# Altium integrated library ON Semi Signal Management Modems & Transceivers.IntLib: 97 symbols (part 4 of 5)
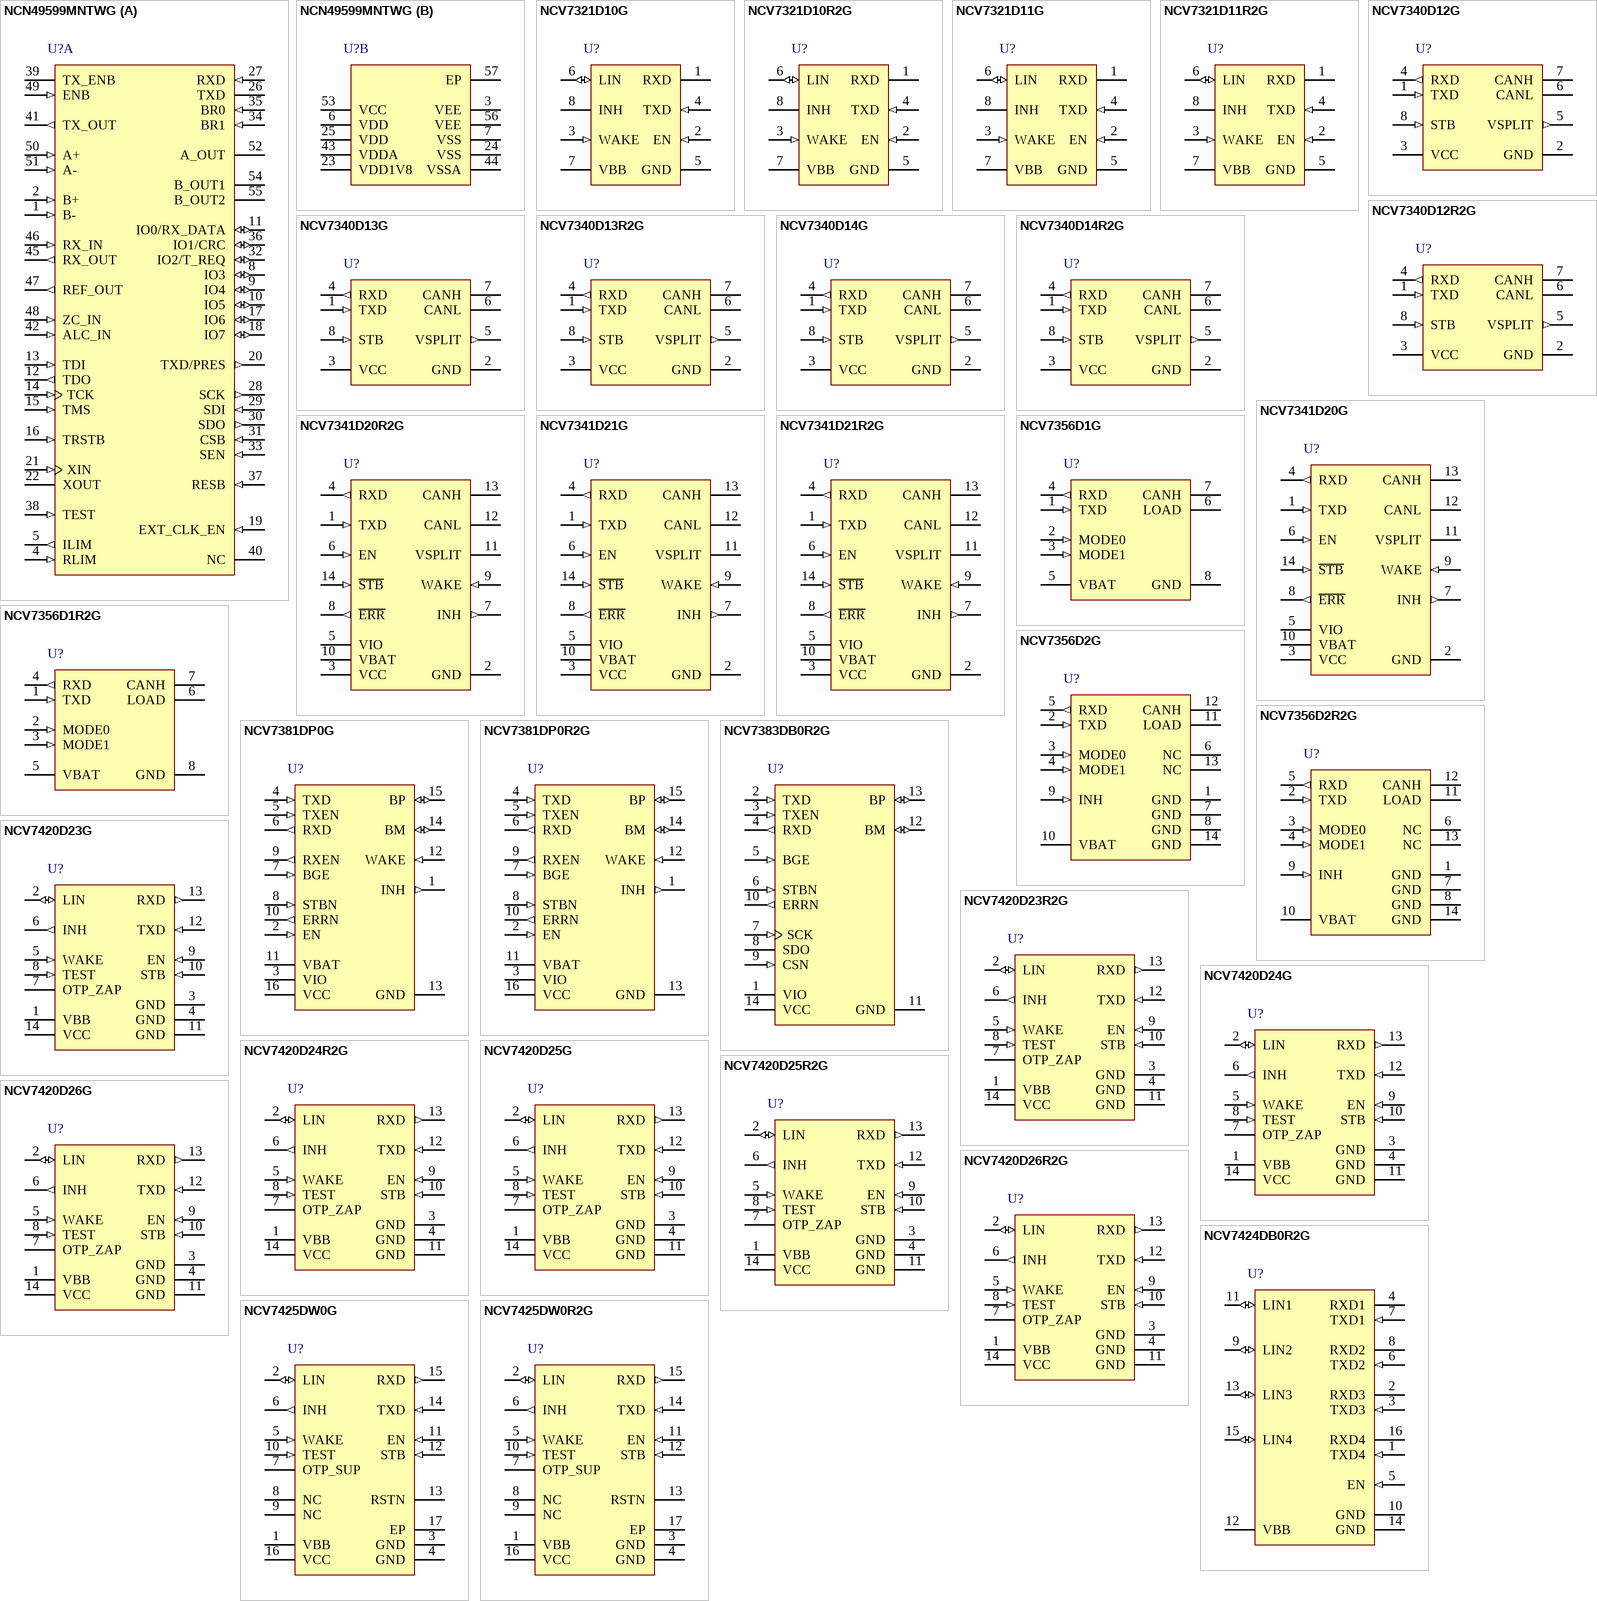
[diagram p7: symbols NCN49599MNTWG to NCV7425DW0R2G]

## NCV7321D10R2G
designator U?
Stand-Alone LIN Transceiver, -40 to 125 degC, 8-Pin SOIC, Pb-Free, Tape and Reel; Manufacturer: On Semiconductor; PartNumber: NCV7321D10R2G; Data Rate: 20 kbaud; Number of Drivers: 1; DatasheetVersion: Rev. 11; PackageVersion: Rev. AK, 02/2011; PackageReference: SOIC-8-751-07; PackageDescription: 8-Pin Small Outline Integrated Circuit, Body 4.9 x 3.9 mm, Pitch 1.27 mm; Supplier 1: Digi-Key; Supplier Part Number 1: NCV7321D10R2G-ND; Supplier 2: Mouser; Supplier Part Number 2: 863-NCV7321D10R2G; Data Transmission Standard: LIN; Number of Receivers: 1; Packing: Tape and Reel; RoHS: TRUE; Mounting Technology: Surface Mount; ComponentLink1Description: Manufacturer URL; ComponentLink1URL: http://www.onsemi.com/; ComponentLink2Description: Datasheet; ComponentLink2URL: http://www.onsemi.com/pub_link/Collateral/NCV7321-D.PDF; ComponentLink3Description: Package Specification; ComponentLink3URL: http://www.onsemi.com/pub_link/Collateral/751-07.PDF
footprint ONSC-SOIC-8-751-07_V (SOIC, 8-Leads, Body 4.9x3.9mm, Pitch 1.27mm)
pins: 1 RXD (oc) "Receive Data Output; Low in Dominant State; Open-Drain Output", 2 EN (in) "Enable Input, Transceiver in Normal Operation Mode when High, Pull-down Resistor to GND", 3 WAKE (in) "High Voltage Digital Input Pin to Apply Local Wake-up, Sensitive to Falling Edge, Pull-up Current Source to VBB", 4 TXD (in) "Transmit Data Input, Low for Dominant State, Pull-down to GND (Switchable Strength for Wake-up Source Recognition)", 5 GND (power) "Ground", 6 LIN (io) "LIN Bus Output/Input", 7 VBB (power) "Battery Supply Input", 8 INH (oc) "Inhibit Output, Switch Between INH and VBB can be Used to Control External Regulator or Pull-up Resistor on LIN Bus"

## NCV7321D11G
designator U?
Stand-Alone LIN Transceiver, -40 to 125 degC, 8-Pin SOIC, Pb-Free, Tube; Manufacturer: On Semiconductor; PartNumber: NCV7321D11G; Data Rate: 20 kbaud; Number of Drivers: 1; DatasheetVersion: Rev. 11; PackageVersion: Rev. AK, 02/2011; PackageReference: SOIC-8-751-07; PackageDescription: 8-Pin Small Outline Integrated Circuit, Body 4.9 x 3.9 mm, Pitch 1.27 mm; Supplier 1: Digi-Key; Supplier Part Number 1: NCV7321D11G-ND; Supplier 2: Mouser; Supplier Part Number 2: 863-NCV7321D11G; Data Transmission Standard: LIN; Number of Receivers: 1; Packing: Tube; RoHS: TRUE; Mounting Technology: Surface Mount; ComponentLink1Description: Manufacturer URL; ComponentLink1URL: http://www.onsemi.com/; ComponentLink2Description: Datasheet; ComponentLink2URL: http://www.onsemi.com/pub_link/Collateral/NCV7321-D.PDF; ComponentLink3Description: Package Specification; ComponentLink3URL: http://www.onsemi.com/pub_link/Collateral/751-07.PDF
footprint ONSC-SOIC-8-751-07_V (SOIC, 8-Leads, Body 4.9x3.9mm, Pitch 1.27mm)
pins: 1 RXD (oc) "Receive Data Output; Low in Dominant State; Open-Drain Output", 2 EN (in) "Enable Input, Transceiver in Normal Operation Mode when High, Pull-down Resistor to GND", 3 WAKE (in) "High Voltage Digital Input Pin to Apply Local Wake-up, Sensitive to Falling Edge, Pull-up Current Source to VBB", 4 TXD (in) "Transmit Data Input, Low for Dominant State, Pull-down to GND (Switchable Strength for Wake-up Source Recognition)", 5 GND (power) "Ground", 6 LIN (io) "LIN Bus Output/Input", 7 VBB (power) "Battery Supply Input", 8 INH (oc) "Inhibit Output, Switch Between INH and VBB can be Used to Control External Regulator or Pull-up Resistor on LIN Bus"

## NCV7321D11R2G
designator U?
Stand-Alone LIN Transceiver, -40 to 125 degC, 8-Pin SOIC, Pb-Free, Tape and Reel; Manufacturer: On Semiconductor; PartNumber: NCV7321D11R2G; Data Rate: 20 kbaud; Number of Drivers: 1; DatasheetVersion: Rev. 11; PackageVersion: Rev. AK, 02/2011; PackageReference: SOIC-8-751-07; PackageDescription: 8-Pin Small Outline Integrated Circuit, Body 4.9 x 3.9 mm, Pitch 1.27 mm; Supplier 1: Digi-Key; Supplier Part Number 1: NCV7321D11R2GOSTR-ND; Supplier 2: Digi-Key; Supplier Part Number 2: NCV7321D11R2GOSCT-ND; Supplier 3: Digi-Key; Supplier Part Number 3: NCV7321D11R2GOSDKR-ND; Supplier 4: Mouser; Supplier Part Number 4: 863-NCV7321D11R2G; Data Transmission Standard: LIN; Number of Receivers: 1; Packing: Tape and Reel; RoHS: TRUE; Mounting Technology: Surface Mount; ComponentLink1Description: Manufacturer URL; ComponentLink1URL: http://www.onsemi.com/; ComponentLink2Description: Datasheet; ComponentLink2URL: http://www.onsemi.com/pub_link/Collateral/NCV7321-D.PDF; ComponentLink3Description: Package Specification; ComponentLink3URL: http://www.onsemi.com/pub_link/Collateral/751-07.PDF
footprint ONSC-SOIC-8-751-07_V (SOIC, 8-Leads, Body 4.9x3.9mm, Pitch 1.27mm)
pins: 1 RXD (oc) "Receive Data Output; Low in Dominant State; Open-Drain Output", 2 EN (in) "Enable Input, Transceiver in Normal Operation Mode when High, Pull-down Resistor to GND", 3 WAKE (in) "High Voltage Digital Input Pin to Apply Local Wake-up, Sensitive to Falling Edge, Pull-up Current Source to VBB", 4 TXD (in) "Transmit Data Input, Low for Dominant State, Pull-down to GND (Switchable Strength for Wake-up Source Recognition)", 5 GND (power) "Ground", 6 LIN (io) "LIN Bus Output/Input", 7 VBB (power) "Battery Supply Input", 8 INH (oc) "Inhibit Output, Switch Between INH and VBB can be Used to Control External Regulator or Pull-up Resistor on LIN Bus"

## NCV7340D12G
designator U?
High Speed Low Power CAN Transceiver, 4.75 to 5.25 V, -40 to 125 degC, 8-Pin SOIC, Pb-Free, Tube; Manufacturer: On Semiconductor; PartNumber: NCV7340D12G; Data Rate: 1 Mb/s; Number of Drivers: 1; VCC Max (V): 5.25; VCC Min (V): 4.75; DatasheetVersion: Rev. 7; PackageVersion: Rev. O, 09/2008; PackageReference: SOIC-8-751AZ-01; PackageDescription: 8-Pin Small Outline Integrated Circuit, Body 4.9 x 3.9 mm, Pitch 1.27 mm; Supplier 1: Digi-Key; Supplier Part Number 1: NCV7340D12G-ND; Supplier 2: Mouser; Supplier Part Number 2: 863-NCV7340D12G; Data Transmission Standard: CAN; Number of Receivers: 1; Packing: Tube; RoHS: TRUE; Mounting Technology: Surface Mount; ComponentLink1Description: Manufacturer URL; ComponentLink1URL: http://www.onsemi.com/; ComponentLink2Description: Datasheet; ComponentLink2URL: http://www.onsemi.com/pub_link/Collateral/NCV7340-D.PDF; ComponentLink3Description: Package Specification; ComponentLink3URL: http://www.onsemi.com/pub_link/Collateral/751AZ.PDF
footprint ONSC-SOIC-8-751AZ-01_N (SOIC, 8-Leads, Body 5x4mm, Pitch 1.27mm, IPC Medium Density)
footprint ONSC-SOIC-8-751AZ-01_L (SOIC, 8-Leads, Body 5x4mm, Pitch 1.27mm, IPC High Density)
footprint ONSC-SOIC-8-751AZ-01_M (SOIC, 8-Leads, Body 5x4mm, Pitch 1.27mm, IPC Low Density)
pins: 1 TXD (in) "Transmit Data Input; Low Input --> Dominant Driver; Internal Pullup Current", 2 GND (power) "Ground", 3 VCC (power) "Supply Voltage", 4 RXD (out) "Receive Data Output; Dominant transmitter --> Low Output", 5 VSPLIT (out) "Common-Mode Stabilization Output", 6 CANL "Low-Level CAN Bus Line (Low in Dominant Mode)", 7 CANH "High-Level CAN Bus Line (High in Dominant Mode)", 8 STB (in) "Standby Mode Control Input"

## NCV7340D12R2G
designator U?
High Speed Low Power CAN Transceiver, 4.75 to 5.25 V, -40 to 125 degC, 8-Pin SOIC, Pb-Free, Tape and Reel; Manufacturer: On Semiconductor; PartNumber: NCV7340D12R2G; Data Rate: 1 Mb/s; Number of Drivers: 1; VCC Max (V): 5.25; VCC Min (V): 4.75; DatasheetVersion: Rev. 7; PackageVersion: Rev. O, 09/2008; PackageReference: SOIC-8-751AZ-01; PackageDescription: 8-Pin Small Outline Integrated Circuit, Body 4.9 x 3.9 mm, Pitch 1.27 mm; Supplier 1: Digi-Key; Supplier Part Number 1: NCV7340D12R2G-ND; Supplier 2: Mouser; Supplier Part Number 2: 863-NCV7340D12R2G; Data Transmission Standard: CAN; Number of Receivers: 1; Packing: Tape and Reel; RoHS: TRUE; Mounting Technology: Surface Mount; ComponentLink1Description: Manufacturer URL; ComponentLink1URL: http://www.onsemi.com/; ComponentLink2Description: Datasheet; ComponentLink2URL: http://www.onsemi.com/pub_link/Collateral/NCV7340-D.PDF; ComponentLink3Description: Package Specification; ComponentLink3URL: http://www.onsemi.com/pub_link/Collateral/751AZ.PDF
footprint ONSC-SOIC-8-751AZ-01_N (SOIC, 8-Leads, Body 5x4mm, Pitch 1.27mm, IPC Medium Density)
footprint ONSC-SOIC-8-751AZ-01_L (SOIC, 8-Leads, Body 5x4mm, Pitch 1.27mm, IPC High Density)
footprint ONSC-SOIC-8-751AZ-01_M (SOIC, 8-Leads, Body 5x4mm, Pitch 1.27mm, IPC Low Density)
pins: 1 TXD (in) "Transmit Data Input; Low Input --> Dominant Driver; Internal Pullup Current", 2 GND (power) "Ground", 3 VCC (power) "Supply Voltage", 4 RXD (out) "Receive Data Output; Dominant transmitter --> Low Output", 5 VSPLIT (out) "Common-Mode Stabilization Output", 6 CANL "Low-Level CAN Bus Line (Low in Dominant Mode)", 7 CANH "High-Level CAN Bus Line (High in Dominant Mode)", 8 STB (in) "Standby Mode Control Input"

## NCV7340D13G
designator U?
High Speed Low Power CAN Transceiver, 4.75 to 5.25 V, -40 to 125 degC, 8-Pin SOIC, Pb-Free, Tube; Manufacturer: On Semiconductor; PartNumber: NCV7340D13G; Data Rate: 1 Mb/s; Number of Drivers: 1; VCC Max (V): 5.25; VCC Min (V): 4.75; DatasheetVersion: Rev. 7; PackageVersion: Rev. O, 09/2008; PackageReference: SOIC-8-751AZ-01; PackageDescription: 8-Pin Small Outline Integrated Circuit, Body 4.9 x 3.9 mm, Pitch 1.27 mm; Supplier 1: Digi-Key; Supplier Part Number 1: NCV7340D13G-ND; Supplier 2: Mouser; Supplier Part Number 2: 863-NCV7340D13G; Data Transmission Standard: CAN; Number of Receivers: 1; Packing: Tube; RoHS: TRUE; Mounting Technology: Surface Mount; ComponentLink1Description: Manufacturer URL; ComponentLink1URL: http://www.onsemi.com/; ComponentLink2Description: Datasheet; ComponentLink2URL: http://www.onsemi.com/pub_link/Collateral/NCV7340-D.PDF; ComponentLink3Description: Package Specification; ComponentLink3URL: http://www.onsemi.com/pub_link/Collateral/751AZ.PDF
footprint ONSC-SOIC-8-751AZ-01_N (SOIC, 8-Leads, Body 5x4mm, Pitch 1.27mm, IPC Medium Density)
footprint ONSC-SOIC-8-751AZ-01_L (SOIC, 8-Leads, Body 5x4mm, Pitch 1.27mm, IPC High Density)
footprint ONSC-SOIC-8-751AZ-01_M (SOIC, 8-Leads, Body 5x4mm, Pitch 1.27mm, IPC Low Density)
pins: 1 TXD (in) "Transmit Data Input; Low Input --> Dominant Driver; Internal Pullup Current", 2 GND (power) "Ground", 3 VCC (power) "Supply Voltage", 4 RXD (out) "Receive Data Output; Dominant transmitter --> Low Output", 5 VSPLIT (out) "Common-Mode Stabilization Output", 6 CANL "Low-Level CAN Bus Line (Low in Dominant Mode)", 7 CANH "High-Level CAN Bus Line (High in Dominant Mode)", 8 STB (in) "Standby Mode Control Input"

## NCV7340D13R2G
designator U?
High Speed Low Power CAN Transceiver, 4.75 to 5.25 V, -40 to 125 degC, 8-Pin SOIC, Pb-Free, Tape and Reel; Manufacturer: On Semiconductor; PartNumber: NCV7340D13R2G; Data Rate: 1 Mb/s; Number of Drivers: 1; VCC Max (V): 5.25; VCC Min (V): 4.75; DatasheetVersion: Rev. 7; PackageVersion: Rev. O, 09/2008; PackageReference: SOIC-8-751AZ-01; PackageDescription: 8-Pin Small Outline Integrated Circuit, Body 4.9 x 3.9 mm, Pitch 1.27 mm; Supplier 1: Digi-Key; Supplier Part Number 1: NCV7340D13R2G-ND; Supplier 2: Mouser; Supplier Part Number 2: 863-NCV7340D13R2G; Data Transmission Standard: CAN; Number of Receivers: 1; Packing: Tape and Reel; RoHS: TRUE; Mounting Technology: Surface Mount; ComponentLink1Description: Manufacturer URL; ComponentLink1URL: http://www.onsemi.com/; ComponentLink2Description: Datasheet; ComponentLink2URL: http://www.onsemi.com/pub_link/Collateral/NCV7340-D.PDF; ComponentLink3Description: Package Specification; ComponentLink3URL: http://www.onsemi.com/pub_link/Collateral/751AZ.PDF
footprint ONSC-SOIC-8-751AZ-01_N (SOIC, 8-Leads, Body 5x4mm, Pitch 1.27mm, IPC Medium Density)
footprint ONSC-SOIC-8-751AZ-01_L (SOIC, 8-Leads, Body 5x4mm, Pitch 1.27mm, IPC High Density)
footprint ONSC-SOIC-8-751AZ-01_M (SOIC, 8-Leads, Body 5x4mm, Pitch 1.27mm, IPC Low Density)
pins: 1 TXD (in) "Transmit Data Input; Low Input --> Dominant Driver; Internal Pullup Current", 2 GND (power) "Ground", 3 VCC (power) "Supply Voltage", 4 RXD (out) "Receive Data Output; Dominant transmitter --> Low Output", 5 VSPLIT (out) "Common-Mode Stabilization Output", 6 CANL "Low-Level CAN Bus Line (Low in Dominant Mode)", 7 CANH "High-Level CAN Bus Line (High in Dominant Mode)", 8 STB (in) "Standby Mode Control Input"

## NCV7340D14G
designator U?
High Speed Low Power CAN Transceiver, 4.75 to 5.25 V, -40 to 125 degC, 8-Pin SOIC, Pb-Free, Tube; Manufacturer: On Semiconductor; PartNumber: NCV7340D14G; Data Rate: 1 Mb/s; Number of Drivers: 1; VCC Max (V): 5.25; VCC Min (V): 4.75; DatasheetVersion: Rev. 7; PackageVersion: Rev. O, 09/2008; PackageReference: SOIC-8-751AZ-01; PackageDescription: 8-Pin Small Outline Integrated Circuit, Body 4.9 x 3.9 mm, Pitch 1.27 mm; Supplier 1: Mouser; Supplier Part Number 1: 863-NCV7340D14G; Data Transmission Standard: CAN; Number of Receivers: 1; Packing: Tube; RoHS: TRUE; Mounting Technology: Surface Mount; ComponentLink1Description: Manufacturer URL; ComponentLink1URL: http://www.onsemi.com/; ComponentLink2Description: Datasheet; ComponentLink2URL: http://www.onsemi.com/pub_link/Collateral/NCV7340-D.PDF; ComponentLink3Description: Package Specification; ComponentLink3URL: http://www.onsemi.com/pub_link/Collateral/751AZ.PDF
footprint ONSC-SOIC-8-751AZ-01_N (SOIC, 8-Leads, Body 5x4mm, Pitch 1.27mm, IPC Medium Density)
footprint ONSC-SOIC-8-751AZ-01_L (SOIC, 8-Leads, Body 5x4mm, Pitch 1.27mm, IPC High Density)
footprint ONSC-SOIC-8-751AZ-01_M (SOIC, 8-Leads, Body 5x4mm, Pitch 1.27mm, IPC Low Density)
pins: 1 TXD (in) "Transmit Data Input; Low Input --> Dominant Driver; Internal Pullup Current", 2 GND (power) "Ground", 3 VCC (power) "Supply Voltage", 4 RXD (out) "Receive Data Output; Dominant transmitter --> Low Output", 5 VSPLIT (out) "Common-Mode Stabilization Output", 6 CANL "Low-Level CAN Bus Line (Low in Dominant Mode)", 7 CANH "High-Level CAN Bus Line (High in Dominant Mode)", 8 STB (in) "Standby Mode Control Input"

## NCV7340D14R2G
designator U?
High Speed Low Power CAN Transceiver, 4.75 to 5.25 V, -40 to 125 degC, 8-Pin SOIC, Pb-Free, Tape and Reel; Manufacturer: On Semiconductor; PartNumber: NCV7340D14R2G; Data Rate: 1 Mb/s; Number of Drivers: 1; VCC Max (V): 5.25; VCC Min (V): 4.75; DatasheetVersion: Rev. 7; PackageVersion: Rev. O, 09/2008; PackageReference: SOIC-8-751AZ-01; PackageDescription: 8-Pin Small Outline Integrated Circuit, Body 4.9 x 3.9 mm, Pitch 1.27 mm; Supplier 1: Mouser; Supplier Part Number 1: 863-NCV7340D14R2G; Data Transmission Standard: CAN; Number of Receivers: 1; Packing: Tape and Reel; RoHS: TRUE; Mounting Technology: Surface Mount; ComponentLink1Description: Manufacturer URL; ComponentLink1URL: http://www.onsemi.com/; ComponentLink2Description: Datasheet; ComponentLink2URL: http://www.onsemi.com/pub_link/Collateral/NCV7340-D.PDF; ComponentLink3Description: Package Specification; ComponentLink3URL: http://www.onsemi.com/pub_link/Collateral/751AZ.PDF
footprint ONSC-SOIC-8-751AZ-01_N (SOIC, 8-Leads, Body 5x4mm, Pitch 1.27mm, IPC Medium Density)
footprint ONSC-SOIC-8-751AZ-01_L (SOIC, 8-Leads, Body 5x4mm, Pitch 1.27mm, IPC High Density)
footprint ONSC-SOIC-8-751AZ-01_M (SOIC, 8-Leads, Body 5x4mm, Pitch 1.27mm, IPC Low Density)
pins: 1 TXD (in) "Transmit Data Input; Low Input --> Dominant Driver; Internal Pullup Current", 2 GND (power) "Ground", 3 VCC (power) "Supply Voltage", 4 RXD (out) "Receive Data Output; Dominant transmitter --> Low Output", 5 VSPLIT (out) "Common-Mode Stabilization Output", 6 CANL "Low-Level CAN Bus Line (Low in Dominant Mode)", 7 CANH "High-Level CAN Bus Line (High in Dominant Mode)", 8 STB (in) "Standby Mode Control Input"

## NCV7341D20G
designator U?
High Speed Low Power CAN Transceiver, 4.75 to 5.25 V, -50 to 125 degC, 14-Pin SOIC, Pb-Free, Tube; Manufacturer: On Semiconductor; PartNumber: NCV7341D20G; Data Rate: 1 Mb/s; Number of Drivers: 1; VCC Max (V): 5.25; VCC Min (V): 4.75; DatasheetVersion: Rev. 4; PackageVersion: Rev. A, 08/2008; PackageReference: SOIC-14-751AP-01; PackageDescription: 14-Pin Small Outline Integrated Circuit, Body 8.65 x 3.9 mm, Pitch 1.27 mm; Supplier 1: Digi-Key; Supplier Part Number 1: NCV7341D20G-ND; Supplier 2: Mouser; Supplier Part Number 2: 863-NCV7341D20G; Data Transmission Standard: CAN; Number of Receivers: 1; Packing: Tube; RoHS: TRUE; Mounting Technology: Surface Mount; ComponentLink1Description: Manufacturer URL; ComponentLink1URL: http://www.onsemi.com/; ComponentLink2Description: Datasheet; ComponentLink2URL: http://www.onsemi.com/pub_link/Collateral/NCV7341-D.PDF; ComponentLink3Description: Package Specification; ComponentLink3URL: http://www.onsemi.com/pub_link/Collateral/751AP.PDF
footprint ONSC-SOIC-14-751AP-01_N (SOIC, 14-Leads, Body 8.7x4mm, Pitch 1.27mm, IPC Medium Density)
footprint ONSC-SOIC-14-751AP-01_L (SOIC, 14-Leads, Body 8.7x4mm, Pitch 1.27mm, IPC High Density)
footprint ONSC-SOIC-14-751AP-01_M (SOIC, 14-Leads, Body 8.7x4mm, Pitch 1.27mm, IPC Low Density)
pins: 1 TXD (in) "Transmit data input; low level = dominant on the bus; internal pull-up current", 2 GND (power) "Ground", 3 VCC (power) "Supply voltage for the core circuitry and the transceiver", 4 RXD (out) "Receive data output; dominant bus => low output", 5 VIO (power) "Supply voltage for the CAN controller interface", 6 EN (in) "Enable input; internal pull-down current", 7 INH (out) "High voltage output for controlling external voltage regulators", 8 ~{ERR} (out) "Digital output indicating errors and power-up; active low", 9 WAKE (in) "Local wake-up input", 10 VBAT (power) "Battery supply connection", 11 VSPLIT (hiz) "Common-mode stabilization output", 12 CANL "Low-level CAN bus line (low in dominant)", 13 CANH "High-level CAN bus line (high in dominant)", 14 ~{STB} (in) "Stand-by mode control input; internal pull-down current"

## NCV7341D20R2G
designator U?
High Speed Low Power CAN Transceiver, 4.75 to 5.25 V, -50 to 125 degC, 14-Pin SOIC, Pb-Free, Tape and Reel; Manufacturer: On Semiconductor; PartNumber: NCV7341D20R2G; Data Rate: 1 Mb/s; Number of Drivers: 1; VCC Max (V): 5.25; VCC Min (V): 4.75; DatasheetVersion: Rev. 4; PackageVersion: Rev. A, 08/2008; PackageReference: SOIC-14-751AP-01; PackageDescription: 14-Pin Small Outline Integrated Circuit, Body 8.65 x 3.9 mm, Pitch 1.27 mm; Supplier 1: Digi-Key; Supplier Part Number 1: NCV7341D20R2G-ND; Supplier 2: Mouser; Supplier Part Number 2: 863-NCV7341D20R2G; Data Transmission Standard: CAN; Number of Receivers: 1; Packing: Tape and Reel; RoHS: TRUE; Mounting Technology: Surface Mount; ComponentLink1Description: Manufacturer URL; ComponentLink1URL: http://www.onsemi.com/; ComponentLink2Description: Datasheet; ComponentLink2URL: http://www.onsemi.com/pub_link/Collateral/NCV7341-D.PDF; ComponentLink3Description: Package Specification; ComponentLink3URL: http://www.onsemi.com/pub_link/Collateral/751AP.PDF
footprint ONSC-SOIC-14-751AP-01_N (SOIC, 14-Leads, Body 8.7x4mm, Pitch 1.27mm, IPC Medium Density)
footprint ONSC-SOIC-14-751AP-01_L (SOIC, 14-Leads, Body 8.7x4mm, Pitch 1.27mm, IPC High Density)
footprint ONSC-SOIC-14-751AP-01_M (SOIC, 14-Leads, Body 8.7x4mm, Pitch 1.27mm, IPC Low Density)
pins: 1 TXD (in) "Transmit data input; low level = dominant on the bus; internal pull-up current", 2 GND (power) "Ground", 3 VCC (power) "Supply voltage for the core circuitry and the transceiver", 4 RXD (out) "Receive data output; dominant bus => low output", 5 VIO (power) "Supply voltage for the CAN controller interface", 6 EN (in) "Enable input; internal pull-down current", 7 INH (out) "High voltage output for controlling external voltage regulators", 8 ~{ERR} (out) "Digital output indicating errors and power-up; active low", 9 WAKE (in) "Local wake-up input", 10 VBAT (power) "Battery supply connection", 11 VSPLIT (hiz) "Common-mode stabilization output", 12 CANL "Low-level CAN bus line (low in dominant)", 13 CANH "High-level CAN bus line (high in dominant)", 14 ~{STB} (in) "Stand-by mode control input; internal pull-down current"

## NCV7341D21G
designator U?
High Speed Low Power CAN Transceiver, 4.75 to 5.25 V, -50 to 125 degC, 14-Pin SOIC, Pb-Free, Tube; Manufacturer: On Semiconductor; PartNumber: NCV7341D21G; Data Rate: 1 Mb/s; Number of Drivers: 1; VCC Max (V): 5.25; VCC Min (V): 4.75; DatasheetVersion: Rev. 4; PackageVersion: Rev. A, 08/2008; PackageReference: SOIC-14-751AP-01; PackageDescription: 14-Pin Small Outline Integrated Circuit, Body 8.65 x 3.9 mm, Pitch 1.27 mm; Supplier 1: Digi-Key; Supplier Part Number 1: NCV7341D21G-ND; Supplier 2: Mouser; Supplier Part Number 2: 863-NCV7341D21G; Data Transmission Standard: CAN; Number of Receivers: 1; Packing: Tube; RoHS: TRUE; Mounting Technology: Surface Mount; ComponentLink1Description: Manufacturer URL; ComponentLink1URL: http://www.onsemi.com/; ComponentLink2Description: Datasheet; ComponentLink2URL: http://www.onsemi.com/pub_link/Collateral/NCV7341-D.PDF; ComponentLink3Description: Package Specification; ComponentLink3URL: http://www.onsemi.com/pub_link/Collateral/751AP.PDF
footprint ONSC-SOIC-14-751AP-01_N (SOIC, 14-Leads, Body 8.7x4mm, Pitch 1.27mm, IPC Medium Density)
footprint ONSC-SOIC-14-751AP-01_L (SOIC, 14-Leads, Body 8.7x4mm, Pitch 1.27mm, IPC High Density)
footprint ONSC-SOIC-14-751AP-01_M (SOIC, 14-Leads, Body 8.7x4mm, Pitch 1.27mm, IPC Low Density)
pins: 1 TXD (in) "Transmit data input; low level = dominant on the bus; internal pull-up current", 2 GND (power) "Ground", 3 VCC (power) "Supply voltage for the core circuitry and the transceiver", 4 RXD (out) "Receive data output; dominant bus => low output", 5 VIO (power) "Supply voltage for the CAN controller interface", 6 EN (in) "Enable input; internal pull-down current", 7 INH (out) "High voltage output for controlling external voltage regulators", 8 ~{ERR} (out) "Digital output indicating errors and power-up; active low", 9 WAKE (in) "Local wake-up input", 10 VBAT (power) "Battery supply connection", 11 VSPLIT (hiz) "Common-mode stabilization output", 12 CANL "Low-level CAN bus line (low in dominant)", 13 CANH "High-level CAN bus line (high in dominant)", 14 ~{STB} (in) "Stand-by mode control input; internal pull-down current"

## NCV7341D21R2G
designator U?
High Speed Low Power CAN Transceiver, 4.75 to 5.25 V, -50 to 125 degC, 14-Pin SOIC, Pb-Free, Tape and Reel; Manufacturer: On Semiconductor; PartNumber: NCV7341D21R2G; Data Rate: 1 Mb/s; Number of Drivers: 1; VCC Max (V): 5.25; VCC Min (V): 4.75; DatasheetVersion: Rev. 4; PackageVersion: Rev. A, 08/2008; PackageReference: SOIC-14-751AP-01; PackageDescription: 14-Pin Small Outline Integrated Circuit, Body 8.65 x 3.9 mm, Pitch 1.27 mm; Supplier 1: Digi-Key; Supplier Part Number 1: NCV7341D21R2G-ND; Supplier 2: Mouser; Supplier Part Number 2: 863-NCV7341D21R2G; Data Transmission Standard: CAN; Number of Receivers: 1; Packing: Tape and Reel; RoHS: TRUE; Mounting Technology: Surface Mount; ComponentLink1Description: Manufacturer URL; ComponentLink1URL: http://www.onsemi.com/; ComponentLink2Description: Datasheet; ComponentLink2URL: http://www.onsemi.com/pub_link/Collateral/NCV7341-D.PDF; ComponentLink3Description: Package Specification; ComponentLink3URL: http://www.onsemi.com/pub_link/Collateral/751AP.PDF
footprint ONSC-SOIC-14-751AP-01_N (SOIC, 14-Leads, Body 8.7x4mm, Pitch 1.27mm, IPC Medium Density)
footprint ONSC-SOIC-14-751AP-01_L (SOIC, 14-Leads, Body 8.7x4mm, Pitch 1.27mm, IPC High Density)
footprint ONSC-SOIC-14-751AP-01_M (SOIC, 14-Leads, Body 8.7x4mm, Pitch 1.27mm, IPC Low Density)
pins: 1 TXD (in) "Transmit data input; low level = dominant on the bus; internal pull-up current", 2 GND (power) "Ground", 3 VCC (power) "Supply voltage for the core circuitry and the transceiver", 4 RXD (out) "Receive data output; dominant bus => low output", 5 VIO (power) "Supply voltage for the CAN controller interface", 6 EN (in) "Enable input; internal pull-down current", 7 INH (out) "High voltage output for controlling external voltage regulators", 8 ~{ERR} (out) "Digital output indicating errors and power-up; active low", 9 WAKE (in) "Local wake-up input", 10 VBAT (power) "Battery supply connection", 11 VSPLIT (hiz) "Common-mode stabilization output", 12 CANL "Low-level CAN bus line (low in dominant)", 13 CANH "High-level CAN bus line (high in dominant)", 14 ~{STB} (in) "Stand-by mode control input; internal pull-down current"

## NCV7356D1G
designator U?
Single Wire CAN Transceiver, 5 to 27 V, 8-Pin SOIC, Pb-Free, Tube; Manufacturer: On Semiconductor; PartNumber: NCV7356D1G; Data Rate: 100 kbps; Number of Drivers: 1; VCC Max (V): 27; VCC Min (V): 5; DatasheetVersion: Rev. 9; PackageVersion: Rev. AK, 02/2011; PackageReference: SOIC-8-751-07; PackageDescription: 8-Pin Small Outline Integrated Circuit, Body 4.9 x 3.9 mm, Pitch 1.27 mm; Supplier 1: Digi-Key; Supplier Part Number 1: NCV7356D1GOS-ND; Supplier 2: Newark; Supplier Part Number 2: 61K1249; Supplier 3: Mouser; Supplier Part Number 3: 863-NCV7356D1G; Data Transmission Standard: CAN; Number of Receivers: 1; Packing: Tube; RoHS: TRUE; Mounting Technology: Surface Mount; ComponentLink1Description: Manufacturer URL; ComponentLink1URL: http://www.onsemi.com/; ComponentLink2Description: Datasheet; ComponentLink2URL: http://www.onsemi.com/pub_link/Collateral/NCV7356-D.PDF; ComponentLink3Description: Package Specification; ComponentLink3URL: http://www.onsemi.com/pub_link/Collateral/751-07.PDF
footprint ONSC-SOIC-8-751-07_V (SOIC, 8-Leads, Body 4.9x3.9mm, Pitch 1.27mm)
pins: 1 TXD (in) "Transmit data from microprocessor to CAN.", 2 MODE0 (in) "Operating mode select input 0.", 3 MODE1 (in) "Operating mode select input 1.", 4 RXD (out) "Receive data from CAN to microprocessor.", 5 VBAT (power) "Battery input voltage.", 6 LOAD "Resistor load (loss of ground detection low side switch).", 7 CANH "Single wire CAN bus pin.", 8 GND (power) "Ground"

## NCV7356D1R2G
designator U?
Single Wire CAN Transceiver, 5 to 27 V, 8-Pin SOIC, Pb-Free, Tape and Reel; Manufacturer: On Semiconductor; PartNumber: NCV7356D1R2G; Data Rate: 100 kbps; Number of Drivers: 1; VCC Max (V): 27; VCC Min (V): 5; DatasheetVersion: Rev. 9; PackageVersion: Rev. AK, 02/2011; PackageReference: SOIC-8-751-07; PackageDescription: 8-Pin Small Outline Integrated Circuit, Body 4.9 x 3.9 mm, Pitch 1.27 mm; Supplier 1: Digi-Key; Supplier Part Number 1: NCV7356D1R2GOSTR-ND; Supplier 2: Digi-Key; Supplier Part Number 2: NCV7356D1R2GOSCT-ND; Supplier 3: Digi-Key; Supplier Part Number 3: NCV7356D1R2GOSDKR-ND; Supplier 4: Newark; Supplier Part Number 4: 61K1250; Supplier 5: Mouser; Supplier Part Number 5: 863-NCV7356D1R2G; Data Transmission Standard: CAN; Number of Receivers: 1; Packing: Tape and Reel; RoHS: TRUE; Mounting Technology: Surface Mount; ComponentLink1Description: Manufacturer URL; ComponentLink1URL: http://www.onsemi.com/; ComponentLink2Description: Datasheet; ComponentLink2URL: http://www.onsemi.com/pub_link/Collateral/NCV7356-D.PDF; ComponentLink3Description: Package Specification; ComponentLink3URL: http://www.onsemi.com/pub_link/Collateral/751-07.PDF
footprint ONSC-SOIC-8-751-07_V (SOIC, 8-Leads, Body 4.9x3.9mm, Pitch 1.27mm)
pins: 1 TXD (in) "Transmit data from microprocessor to CAN.", 2 MODE0 (in) "Operating mode select input 0.", 3 MODE1 (in) "Operating mode select input 1.", 4 RXD (out) "Receive data from CAN to microprocessor.", 5 VBAT (power) "Battery input voltage.", 6 LOAD "Resistor load (loss of ground detection low side switch).", 7 CANH "Single wire CAN bus pin.", 8 GND (power) "Ground"

## NCV7356D2G
designator U?
Single Wire CAN Transceiver, 5 to 27 V, 14-Pin SOIC, Pb-Free, Tube; Manufacturer: On Semiconductor; PartNumber: NCV7356D2G; Data Rate: 100 kbps; Number of Drivers: 1; VCC Max (V): 27; VCC Min (V): 5; DatasheetVersion: Rev. 9; PackageVersion: Rev. H; PackageReference: SOIC-14-751A-03_H; PackageDescription: 14-Pin Small Outline Integrated Circuit, Body 8.65 x 3.9 mm, Pitch 1.27 mm; Supplier 1: Digi-Key; Supplier Part Number 1: NCV7356D2G-ND; Supplier 2: Newark; Supplier Part Number 2: 27M2633; Supplier 3: Mouser; Supplier Part Number 3: 863-NCV7356D2G; Data Transmission Standard: CAN; Number of Receivers: 1; Packing: Tube; RoHS: TRUE; Mounting Technology: Surface Mount; ComponentLink1Description: Manufacturer URL; ComponentLink1URL: http://www.onsemi.com/; ComponentLink2Description: Datasheet; ComponentLink2URL: http://www.onsemi.com/pub_link/Collateral/NCV7356-D.PDF; ComponentLink3Description: Package Specification; ComponentLink3URL: http://www.onsemi.com/pub_link/Collateral/MC74AC74-D.PDF
footprint ONSC-SOIC-14-751A-03_H_V (SOIC, 14-Leads, Body 8.75x4mm, Pitch 1.27mm)
pins: 1 GND (power) "Ground", 2 TXD (in) "Transmit data from microprocessor to CAN.", 3 MODE0 (in) "Operating mode select input 0.", 4 MODE1 (in) "Operating mode select input 1.", 5 RXD (out) "Receive data from CAN to microprocessor.", 6 NC "No Connection (Note 1)", 7 GND (power) "Ground", 8 GND (power) "Ground", 9 INH (in) "Control pin for external voltage regulator (high voltage high side switch) (14 pin package only)", 10 VBAT (power) "Battery input voltage.", 11 LOAD "Resistor load (loss of ground detection low side switch).", 12 CANH "Single wire CAN bus pin.", 13 NC "No Connection (Note 1)", 14 GND (power) "Ground"

## NCV7356D2R2G
designator U?
Single Wire CAN Transceiver, 5 to 27 V, 14-Pin SOIC, Pb-Free, Tape and Reel; Manufacturer: On Semiconductor; PartNumber: NCV7356D2R2G; Data Rate: 100 kbps; Number of Drivers: 1; VCC Max (V): 27; VCC Min (V): 5; DatasheetVersion: Rev. 9; PackageVersion: Rev. H; PackageReference: SOIC-14-751A-03_H; PackageDescription: 14-Pin Small Outline Integrated Circuit, Body 8.65 x 3.9 mm, Pitch 1.27 mm; Supplier 1: Digi-Key; Supplier Part Number 1: NCV7356D2R2GOSTR-ND; Supplier 2: Digi-Key; Supplier Part Number 2: NCV7356D2R2GOSCT-ND; Supplier 3: Digi-Key; Supplier Part Number 3: NCV7356D2R2GOSDKR-ND; Supplier 4: Newark; Supplier Part Number 4: 27M2634; Supplier 5: Mouser; Supplier Part Number 5: 863-NCV7356D2R2G; Data Transmission Standard: CAN; Number of Receivers: 1; Packing: Tape and Reel; RoHS: TRUE; Mounting Technology: Surface Mount; ComponentLink1Description: Manufacturer URL; ComponentLink1URL: http://www.onsemi.com/; ComponentLink2Description: Datasheet; ComponentLink2URL: http://www.onsemi.com/pub_link/Collateral/NCV7356-D.PDF; ComponentLink3Description: Package Specification; ComponentLink3URL: http://www.onsemi.com/pub_link/Collateral/MC74AC74-D.PDF
footprint ONSC-SOIC-14-751A-03_H_V (SOIC, 14-Leads, Body 8.75x4mm, Pitch 1.27mm)
pins: 1 GND (power) "Ground", 2 TXD (in) "Transmit data from microprocessor to CAN.", 3 MODE0 (in) "Operating mode select input 0.", 4 MODE1 (in) "Operating mode select input 1.", 5 RXD (out) "Receive data from CAN to microprocessor.", 6 NC "No Connection (Note 1)", 7 GND (power) "Ground", 8 GND (power) "Ground", 9 INH (in) "Control pin for external voltage regulator (high voltage high side switch) (14 pin package only)", 10 VBAT (power) "Battery input voltage.", 11 LOAD "Resistor load (loss of ground detection low side switch).", 12 CANH "Single wire CAN bus pin.", 13 NC "No Connection (Note 1)", 14 GND (power) "Ground"

## NCV7381DP0G
designator U?
FlexRay(R) Bus Driver, 4.75 to 5.25 V, -40 to 125 degC, 16-Pin SSOP, Pb-Free, Tube; Manufacturer: On Semiconductor; PartNumber: NCV7381DP0G; Data Rate: 10 Mb/s; Number of Drivers: 1; VCC Max (V): 5.25; VCC Min (V): 4.75; DatasheetVersion: Rev. 2; PackageVersion: Rev. O, 09/2008; PackageReference: SSOP-16-565AE-01; PackageDescription: 16-Pin Small Outline Package, Body 6.2 x 5.29 mm, Pitch 0.65 mm; Supplier 1: Digi-Key; Supplier Part Number 1: NCV7381DP0G-ND; Supplier 2: Mouser; Supplier Part Number 2: 863-NCV7381DP0G; Data Transmission Standard: FlexRay; Number of Receivers: 1; Packing: Tube; RoHS: TRUE; Mounting Technology: Surface Mount; ComponentLink1Description: Manufacturer URL; ComponentLink1URL: http://www.onsemi.com/; ComponentLink2Description: Datasheet; ComponentLink2URL: http://www.onsemi.com/pub_link/Collateral/NCV7381-D.PDF; ComponentLink3Description: Package Specification; ComponentLink3URL: http://www.onsemi.com/pub_link/Collateral/565AE.PDF
footprint ONSC-SSOP-16-565AE-01_N (SOP, 16-Leads, Body 6.3x5.38mm, Pitch 0.65mm, IPC Medium Density)
footprint ONSC-SSOP-16-565AE-01_L (SOP, 16-Leads, Body 6.3x5.38mm, Pitch 0.65mm, IPC High Density)
footprint ONSC-SSOP-16-565AE-01_M (SOP, 16-Leads, Body 6.3x5.38mm, Pitch 0.65mm, IPC Low Density)
pins: 1 INH (out) "External regulator control output", 2 EN (in) "Mode control input; internal pull?down resistor", 3 VIO (power) "Supply voltage for digital pins level adaptation", 4 TXD (in) "Data to be transmitted; internal pull?down resistor", 5 TXEN (in) "Transmitter enable input; when High transmitter disabled; internal pull?up", 6 RXD (out) "Receive data output", 7 BGE (in) "Bus guardian enable input; when Low transmitter disabled; internal pull?resistor", 8 STBN (in) "Mode control input; internal pull?down resistor", 9 RXEN (out) "Bus activity detection output; when Low bus activity detected", 10 ERRN (out) "Error diagnosis and status output", 11 VBAT (power) "Battery supply voltage", 12 WAKE (in) "Local wake up input; internal pull up or pull down", 13 GND (power) "Ground connection", 14 BM (io) "Bus line minus", 15 BP (io) "Bus line plus", 16 VCC (power) "Bus driver core supply voltage; 5 V nominal"

## NCV7381DP0R2G
designator U?
FlexRay(R) Bus Driver, 4.75 to 5.25 V, -40 to 125 degC, 16-Pin SSOP, Pb-Free, Tape and Reel; Manufacturer: On Semiconductor; PartNumber: NCV7381DP0R2G; Data Rate: 10 Mb/s; Number of Drivers: 1; VCC Max (V): 5.25; VCC Min (V): 4.75; DatasheetVersion: Rev. 2; PackageVersion: Rev. O, 09/2008; PackageReference: SSOP-16-565AE-01; PackageDescription: 16-Pin Small Outline Package, Body 6.2 x 5.29 mm, Pitch 0.65 mm; Supplier 1: Digi-Key; Supplier Part Number 1: NCV7381DP0R2G-ND; Supplier 2: Newark; Supplier Part Number 2: 60W1735; Supplier 3: Mouser; Supplier Part Number 3: 863-NCV7381DP0R2G; Data Transmission Standard: FlexRay; Number of Receivers: 1; Packing: Tape and Reel; RoHS: TRUE; Mounting Technology: Surface Mount; ComponentLink1Description: Manufacturer URL; ComponentLink1URL: http://www.onsemi.com/; ComponentLink2Description: Datasheet; ComponentLink2URL: http://www.onsemi.com/pub_link/Collateral/NCV7381-D.PDF; ComponentLink3Description: Package Specification; ComponentLink3URL: http://www.onsemi.com/pub_link/Collateral/565AE.PDF
footprint ONSC-SSOP-16-565AE-01_N (SOP, 16-Leads, Body 6.3x5.38mm, Pitch 0.65mm, IPC Medium Density)
footprint ONSC-SSOP-16-565AE-01_L (SOP, 16-Leads, Body 6.3x5.38mm, Pitch 0.65mm, IPC High Density)
footprint ONSC-SSOP-16-565AE-01_M (SOP, 16-Leads, Body 6.3x5.38mm, Pitch 0.65mm, IPC Low Density)
pins: 1 INH (out) "External regulator control output", 2 EN (in) "Mode control input; internal pull?down resistor", 3 VIO (power) "Supply voltage for digital pins level adaptation", 4 TXD (in) "Data to be transmitted; internal pull?down resistor", 5 TXEN (in) "Transmitter enable input; when High transmitter disabled; internal pull?up", 6 RXD (out) "Receive data output", 7 BGE (in) "Bus guardian enable input; when Low transmitter disabled; internal pull?resistor", 8 STBN (in) "Mode control input; internal pull?down resistor", 9 RXEN (out) "Bus activity detection output; when Low bus activity detected", 10 ERRN (out) "Error diagnosis and status output", 11 VBAT (power) "Battery supply voltage", 12 WAKE (in) "Local wake up input; internal pull up or pull down", 13 GND (power) "Ground connection", 14 BM (io) "Bus line minus", 15 BP (io) "Bus line plus", 16 VCC (power) "Bus driver core supply voltage; 5 V nominal"

## NCV7383DB0R2G
designator U?
FlexRay(TM) Bus Driver, 4.75 to 5.25 V, -40 to 125 degC, 14-Pin TSSOP, Pb-Free, Tape and Reel; Manufacturer: On Semiconductor; PartNumber: NCV7383DB0R2G; Data Rate: 10 Mb/s; Number of Drivers: 1; VCC Max (V): 5.25; VCC Min (V): 4.75; DatasheetVersion: Rev. 0; PackageVersion: Rev. B, 10/2006; PackageReference: TSSOP-14-948G-01; PackageDescription: 14-Pin Small Outline Package, Body 5 x 4.4 mm, Pitch 0.65 mm; Supplier 1: Digi-Key; Supplier Part Number 1: NCV7383DB0R2GOSTR-ND; Supplier 2: Digi-Key; Supplier Part Number 2: NCV7383DB0R2GOSCT-ND; Supplier 3: Digi-Key; Supplier Part Number 3: NCV7383DB0R2GOSDKR-ND; Supplier 4: Farnell; Supplier Part Number 4: 2424529; Supplier 5: Newark; Supplier Part Number 5: 28X8000; Supplier 6: Newark; Supplier Part Number 6: 33X3786; Supplier 7: Mouser; Supplier Part Number 7: 863-NCV7383DB0R2G; Data Transmission Standard: FlexRay; Number of Receivers: 1; Packing: Tape and Reel; RoHS: TRUE; Mounting Technology: Surface Mount; ComponentLink1Description: Manufacturer URL; ComponentLink1URL: http://www.onsemi.com/; ComponentLink2Description: Datasheet; ComponentLink2URL: http://www.onsemi.com/pub_link/Collateral/NCV7383-D.PDF; ComponentLink3Description: Package Specification; ComponentLink3URL: http://www.onsemi.com/pub_link/Collateral/948G-01.PDF
footprint ONSC-TSSOP-14-948G-01_V (SOP, 14-Leads, Body 5.1x4.5mm, Pitch 0.65mm)
pins: 1 VIO (power) "Supply voltage for digital pins level adaptation", 2 TXD (in) "Data to be transmitted", 3 TXEN (in) "Transmitter enable input; when High, transmitter disabled", 4 RXD (out) "Receive data output", 5 BGE (in) "Bus guardian enable input; when Low, transmitter disabled", 6 STBN (in) "Mode control input", 7 SCK (in) "SPI clock input", 8 SDO (hiz) "SPI data output", 9 CSN (in) "Chip select input, active Low", 10 ERRN (out) "Bus Driver error condition indication", 11 GND (power) "Ground connection", 12 BM (io) "Bus line minus", 13 BP (io) "Bus line plus", 14 VCC (power) "Bus driver core supply voltage; 5V nominal"

## NCV7420D23G
designator U?
LIN Transceiver with 3.3 V or 5 V Voltage Regulator, -40 to 125 degC, 14-Pin SOIC, Pb-Free, Tube; Manufacturer: On Semiconductor; PartNumber: NCV7420D23G; Data Rate: 20 kbaud; Number of Drivers: 1; DatasheetVersion: Rev. 8; PackageVersion: Rev. A, 08/2008; PackageReference: SOIC-14-751AP-01; PackageDescription: 14-Pin Small Outline Integrated Circuit, Body 8.65 x 3.9 mm, Pitch 1.27 mm; Supplier 1: Digi-Key; Supplier Part Number 1: NCV7420D23G-ND; Supplier 2: Mouser; Supplier Part Number 2: 863-NCV7420D23G; Data Transmission Standard: LIN; Number of Receivers: 1; Packing: Tube; RoHS: TRUE; Mounting Technology: Surface Mount; ComponentLink1Description: Manufacturer URL; ComponentLink1URL: http://www.onsemi.com/; ComponentLink2Description: Datasheet; ComponentLink2URL: http://www.onsemi.com/pub_link/Collateral/NCV7420-D.PDF; ComponentLink3Description: Package Specification; ComponentLink3URL: http://www.onsemi.com/pub_link/Collateral/751AP.PDF
footprint ONSC-SOIC-14-751AP-01_N (SOIC, 14-Leads, Body 8.7x4mm, Pitch 1.27mm, IPC Medium Density)
footprint ONSC-SOIC-14-751AP-01_L (SOIC, 14-Leads, Body 8.7x4mm, Pitch 1.27mm, IPC High Density)
footprint ONSC-SOIC-14-751AP-01_M (SOIC, 14-Leads, Body 8.7x4mm, Pitch 1.27mm, IPC Low Density)
pins: 1 VBB (power) "Battery supply input", 2 LIN (io) "LIN bus output/input", 3 GND (power) "Ground", 4 GND (power) "Ground", 5 WAKE (in) "High voltage digital input pin to switch the part from sleep? to standby mode", 6 INH (out) "Inhibit output", 7 OTP_ZAP "Supply for programming of trimming bits at factory testing, should be grounded in the application", 8 TEST (in) "Digital input for factory testing, should be grounded in the application", 9 EN (in) "Enable input, transceiver in normal operation mode when high", 10 STB (in) "Standby mode control input", 11 GND (power) "Ground", 12 TXD (in) "Transmit data input, low in dominant state", 13 RXD (out) "Receive data output; low in dominant state; push?pull output", 14 VCC (power) "Supply voltage (output)"

## NCV7420D23R2G
designator U?
LIN Transceiver with 3.3 V or 5 V Voltage Regulator, -40 to 125 degC, 14-Pin SOIC, Pb-Free, Tape and Reel; Manufacturer: On Semiconductor; PartNumber: NCV7420D23R2G; Data Rate: 20 kbaud; Number of Drivers: 1; DatasheetVersion: Rev. 8; PackageVersion: Rev. A, 08/2008; PackageReference: SOIC-14-751AP-01; PackageDescription: 14-Pin Small Outline Integrated Circuit, Body 8.65 x 3.9 mm, Pitch 1.27 mm; Supplier 1: Digi-Key; Supplier Part Number 1: NCV7420D23R2G-ND; Supplier 2: Mouser; Supplier Part Number 2: 863-NCV7420D23R2G; Data Transmission Standard: LIN; Number of Receivers: 1; Packing: Tape and Reel; RoHS: TRUE; Mounting Technology: Surface Mount; ComponentLink1Description: Manufacturer URL; ComponentLink1URL: http://www.onsemi.com/; ComponentLink2Description: Datasheet; ComponentLink2URL: http://www.onsemi.com/pub_link/Collateral/NCV7420-D.PDF; ComponentLink3Description: Package Specification; ComponentLink3URL: http://www.onsemi.com/pub_link/Collateral/751AP.PDF
footprint ONSC-SOIC-14-751AP-01_N (SOIC, 14-Leads, Body 8.7x4mm, Pitch 1.27mm, IPC Medium Density)
footprint ONSC-SOIC-14-751AP-01_L (SOIC, 14-Leads, Body 8.7x4mm, Pitch 1.27mm, IPC High Density)
footprint ONSC-SOIC-14-751AP-01_M (SOIC, 14-Leads, Body 8.7x4mm, Pitch 1.27mm, IPC Low Density)
pins: 1 VBB (power) "Battery supply input", 2 LIN (io) "LIN bus output/input", 3 GND (power) "Ground", 4 GND (power) "Ground", 5 WAKE (in) "High voltage digital input pin to switch the part from sleep? to standby mode", 6 INH (out) "Inhibit output", 7 OTP_ZAP "Supply for programming of trimming bits at factory testing, should be grounded in the application", 8 TEST (in) "Digital input for factory testing, should be grounded in the application", 9 EN (in) "Enable input, transceiver in normal operation mode when high", 10 STB (in) "Standby mode control input", 11 GND (power) "Ground", 12 TXD (in) "Transmit data input, low in dominant state", 13 RXD (out) "Receive data output; low in dominant state; push?pull output", 14 VCC (power) "Supply voltage (output)"

## NCV7420D24G
designator U?
LIN Transceiver with 3.3 V or 5 V Voltage Regulator, -40 to 125 degC, 14-Pin SOIC, Pb-Free, Tube; Manufacturer: On Semiconductor; PartNumber: NCV7420D24G; Data Rate: 20 kbaud; Number of Drivers: 1; DatasheetVersion: Rev. 8; PackageVersion: Rev. A, 08/2008; PackageReference: SOIC-14-751AP-01; PackageDescription: 14-Pin Small Outline Integrated Circuit, Body 8.65 x 3.9 mm, Pitch 1.27 mm; Supplier 1: Digi-Key; Supplier Part Number 1: NCV7420D24G-ND; Supplier 2: Mouser; Supplier Part Number 2: 863-NCV7420D24G; Data Transmission Standard: LIN; Number of Receivers: 1; Packing: Tube; RoHS: TRUE; Mounting Technology: Surface Mount; ComponentLink1Description: Manufacturer URL; ComponentLink1URL: http://www.onsemi.com/; ComponentLink2Description: Datasheet; ComponentLink2URL: http://www.onsemi.com/pub_link/Collateral/NCV7420-D.PDF; ComponentLink3Description: Package Specification; ComponentLink3URL: http://www.onsemi.com/pub_link/Collateral/751AP.PDF
footprint ONSC-SOIC-14-751AP-01_N (SOIC, 14-Leads, Body 8.7x4mm, Pitch 1.27mm, IPC Medium Density)
footprint ONSC-SOIC-14-751AP-01_L (SOIC, 14-Leads, Body 8.7x4mm, Pitch 1.27mm, IPC High Density)
footprint ONSC-SOIC-14-751AP-01_M (SOIC, 14-Leads, Body 8.7x4mm, Pitch 1.27mm, IPC Low Density)
pins: 1 VBB (power) "Battery supply input", 2 LIN (io) "LIN bus output/input", 3 GND (power) "Ground", 4 GND (power) "Ground", 5 WAKE (in) "High voltage digital input pin to switch the part from sleep? to standby mode", 6 INH (out) "Inhibit output", 7 OTP_ZAP "Supply for programming of trimming bits at factory testing, should be grounded in the application", 8 TEST (in) "Digital input for factory testing, should be grounded in the application", 9 EN (in) "Enable input, transceiver in normal operation mode when high", 10 STB (in) "Standby mode control input", 11 GND (power) "Ground", 12 TXD (in) "Transmit data input, low in dominant state", 13 RXD (out) "Receive data output; low in dominant state; push?pull output", 14 VCC (power) "Supply voltage (output)"

## NCV7420D24R2G
designator U?
LIN Transceiver with 3.3 V or 5 V Voltage Regulator, -40 to 125 degC, 14-Pin SOIC, Pb-Free, Tape and Reel; Manufacturer: On Semiconductor; PartNumber: NCV7420D24R2G; Data Rate: 20 kbaud; Number of Drivers: 1; DatasheetVersion: Rev. 8; PackageVersion: Rev. A, 08/2008; PackageReference: SOIC-14-751AP-01; PackageDescription: 14-Pin Small Outline Integrated Circuit, Body 8.65 x 3.9 mm, Pitch 1.27 mm; Supplier 1: Digi-Key; Supplier Part Number 1: NCV7420D24R2G-ND; Supplier 2: Mouser; Supplier Part Number 2: 863-NCV7420D24R2G; Data Transmission Standard: LIN; Number of Receivers: 1; Packing: Tape and Reel; RoHS: TRUE; Mounting Technology: Surface Mount; ComponentLink1Description: Manufacturer URL; ComponentLink1URL: http://www.onsemi.com/; ComponentLink2Description: Datasheet; ComponentLink2URL: http://www.onsemi.com/pub_link/Collateral/NCV7420-D.PDF; ComponentLink3Description: Package Specification; ComponentLink3URL: http://www.onsemi.com/pub_link/Collateral/751AP.PDF
footprint ONSC-SOIC-14-751AP-01_N (SOIC, 14-Leads, Body 8.7x4mm, Pitch 1.27mm, IPC Medium Density)
footprint ONSC-SOIC-14-751AP-01_L (SOIC, 14-Leads, Body 8.7x4mm, Pitch 1.27mm, IPC High Density)
footprint ONSC-SOIC-14-751AP-01_M (SOIC, 14-Leads, Body 8.7x4mm, Pitch 1.27mm, IPC Low Density)
pins: 1 VBB (power) "Battery supply input", 2 LIN (io) "LIN bus output/input", 3 GND (power) "Ground", 4 GND (power) "Ground", 5 WAKE (in) "High voltage digital input pin to switch the part from sleep? to standby mode", 6 INH (out) "Inhibit output", 7 OTP_ZAP "Supply for programming of trimming bits at factory testing, should be grounded in the application", 8 TEST (in) "Digital input for factory testing, should be grounded in the application", 9 EN (in) "Enable input, transceiver in normal operation mode when high", 10 STB (in) "Standby mode control input", 11 GND (power) "Ground", 12 TXD (in) "Transmit data input, low in dominant state", 13 RXD (out) "Receive data output; low in dominant state; push?pull output", 14 VCC (power) "Supply voltage (output)"

## NCV7420D25G
designator U?
LIN Transceiver with 3.3 V or 5 V Voltage Regulator, -40 to 125 degC, 14-Pin SOIC, Pb-Free, Tube; Manufacturer: On Semiconductor; PartNumber: NCV7420D25G; Data Rate: 20 kbaud; Number of Drivers: 1; DatasheetVersion: Rev. 8; PackageVersion: Rev. A, 08/2008; PackageReference: SOIC-14-751AP-01; PackageDescription: 14-Pin Small Outline Integrated Circuit, Body 8.65 x 3.9 mm, Pitch 1.27 mm; Supplier 1: Digi-Key; Supplier Part Number 1: NCV7420D25G-ND; Supplier 2: Mouser; Supplier Part Number 2: 863-NCV7420D25G; Data Transmission Standard: LIN; Number of Receivers: 1; Packing: Tube; RoHS: TRUE; Mounting Technology: Surface Mount; ComponentLink1Description: Manufacturer URL; ComponentLink1URL: http://www.onsemi.com/; ComponentLink2Description: Datasheet; ComponentLink2URL: http://www.onsemi.com/pub_link/Collateral/NCV7420-D.PDF; ComponentLink3Description: Package Specification; ComponentLink3URL: http://www.onsemi.com/pub_link/Collateral/751AP.PDF
footprint ONSC-SOIC-14-751AP-01_N (SOIC, 14-Leads, Body 8.7x4mm, Pitch 1.27mm, IPC Medium Density)
footprint ONSC-SOIC-14-751AP-01_L (SOIC, 14-Leads, Body 8.7x4mm, Pitch 1.27mm, IPC High Density)
footprint ONSC-SOIC-14-751AP-01_M (SOIC, 14-Leads, Body 8.7x4mm, Pitch 1.27mm, IPC Low Density)
pins: 1 VBB (power) "Battery supply input", 2 LIN (io) "LIN bus output/input", 3 GND (power) "Ground", 4 GND (power) "Ground", 5 WAKE (in) "High voltage digital input pin to switch the part from sleep? to standby mode", 6 INH (out) "Inhibit output", 7 OTP_ZAP "Supply for programming of trimming bits at factory testing, should be grounded in the application", 8 TEST (in) "Digital input for factory testing, should be grounded in the application", 9 EN (in) "Enable input, transceiver in normal operation mode when high", 10 STB (in) "Standby mode control input", 11 GND (power) "Ground", 12 TXD (in) "Transmit data input, low in dominant state", 13 RXD (out) "Receive data output; low in dominant state; push?pull output", 14 VCC (power) "Supply voltage (output)"

## NCV7420D25R2G
designator U?
LIN Transceiver with 3.3 V or 5 V Voltage Regulator, -40 to 125 degC, 14-Pin SOIC, Pb-Free, Tape and Reel; Manufacturer: On Semiconductor; PartNumber: NCV7420D25R2G; Data Rate: 20 kbaud; Number of Drivers: 1; DatasheetVersion: Rev. 8; PackageVersion: Rev. A, 08/2008; PackageReference: SOIC-14-751AP-01; PackageDescription: 14-Pin Small Outline Integrated Circuit, Body 8.65 x 3.9 mm, Pitch 1.27 mm; Supplier 1: Digi-Key; Supplier Part Number 1: NCV7420D25R2G-ND; Supplier 2: Mouser; Supplier Part Number 2: 863-NCV7420D25R2G; Data Transmission Standard: LIN; Number of Receivers: 1; Packing: Tape and Reel; RoHS: TRUE; Mounting Technology: Surface Mount; ComponentLink1Description: Manufacturer URL; ComponentLink1URL: http://www.onsemi.com/; ComponentLink2Description: Datasheet; ComponentLink2URL: http://www.onsemi.com/pub_link/Collateral/NCV7420-D.PDF; ComponentLink3Description: Package Specification; ComponentLink3URL: http://www.onsemi.com/pub_link/Collateral/751AP.PDF
footprint ONSC-SOIC-14-751AP-01_N (SOIC, 14-Leads, Body 8.7x4mm, Pitch 1.27mm, IPC Medium Density)
footprint ONSC-SOIC-14-751AP-01_L (SOIC, 14-Leads, Body 8.7x4mm, Pitch 1.27mm, IPC High Density)
footprint ONSC-SOIC-14-751AP-01_M (SOIC, 14-Leads, Body 8.7x4mm, Pitch 1.27mm, IPC Low Density)
pins: 1 VBB (power) "Battery supply input", 2 LIN (io) "LIN bus output/input", 3 GND (power) "Ground", 4 GND (power) "Ground", 5 WAKE (in) "High voltage digital input pin to switch the part from sleep? to standby mode", 6 INH (out) "Inhibit output", 7 OTP_ZAP "Supply for programming of trimming bits at factory testing, should be grounded in the application", 8 TEST (in) "Digital input for factory testing, should be grounded in the application", 9 EN (in) "Enable input, transceiver in normal operation mode when high", 10 STB (in) "Standby mode control input", 11 GND (power) "Ground", 12 TXD (in) "Transmit data input, low in dominant state", 13 RXD (out) "Receive data output; low in dominant state; push?pull output", 14 VCC (power) "Supply voltage (output)"